# Altium footprint library CAPC1209X035.PcbLib: 3 footprints
Each footprint in its own frame and in the unit in brackets; x right, y up, seen from the top. Pads: shape width x height; smd on the part's side, far side on the other; paste and mask are expansions set on the pad; w line width, h text height; cw(c..) or ccw(c..) is an arc to the next point about the centre after c.
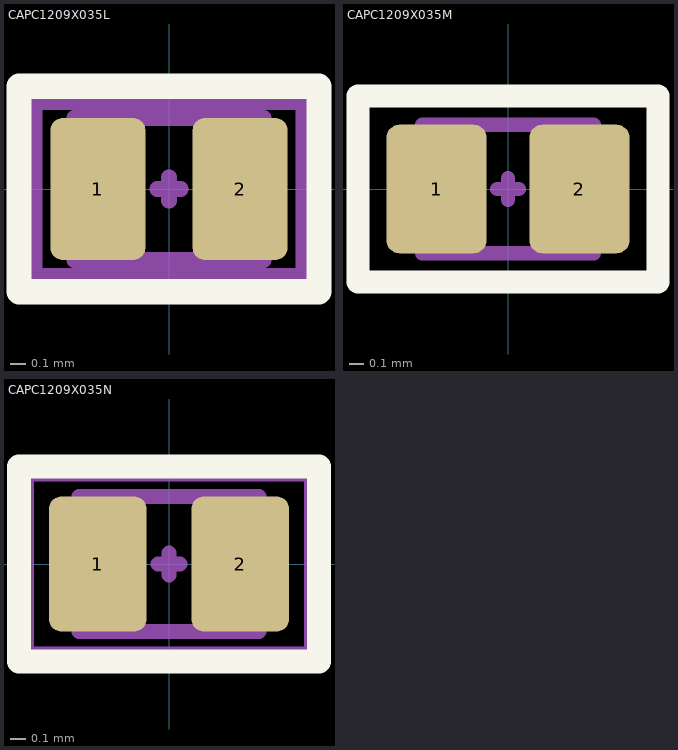
[diagram p0: the footprints below, top view; thin cyan lines are the x and y axes]

## CAPC1209X035L [mm] "Capacitors, Chip, Non-polarized"
height 0.55
pads (2):
  rrect25% 0.6x0.9 smd: 1(-0.45,0) 2(0.45,0)
Top Overlay:
  lines w0.16: -0.95,-0.65 0.95,-0.65 0.95,0.65 -0.95,0.65 -0.95,-0.65
Top Component Center:
  lines w0.1: -0.075,0 0.075,0 ; 0,-0.075 0,0.075
Top Courtyard:
  lines w0.1: -0.85,-0.55 0.85,-0.55 0.85,0.55 -0.85,0.55 -0.85,-0.55
Top Assembly:
  lines w0.1: -0.6,-0.45 0.6,-0.45 0.6,0.45 -0.6,0.45 -0.6,-0.45
  text ".Designator" at 0,0 h1
3D body "CAPC1209X035L.STEP": height 0.35, standoff 0, extent -0.6,-0.45 0.6,0.45

## CAPC1209X035M [mm] "Capacitors, Chip, Non-polarized"
height 0.55
pads (2):
  rrect25% 0.7x0.9 smd: 1(-0.5,0) 2(0.5,0)
Top Overlay:
  lines w0.16: -1.05,-0.65 1.05,-0.65 1.05,0.65 -1.05,0.65 -1.05,-0.65
Top Component Center:
  lines w0.1: -0.075,0 0.075,0 ; 0,-0.075 0,0.075
Top Courtyard:
  lines w0.1: -1.05,-0.65 1.05,-0.65 1.05,0.65 -1.05,0.65 -1.05,-0.65
Top Assembly:
  lines w0.1: -0.6,-0.45 0.6,-0.45 0.6,0.45 -0.6,0.45 -0.6,-0.45
  text ".Designator" at 0,0 h1
3D body "CAPC1209X035M.STEP": height 0.35, standoff 0, extent -0.6,-0.45 0.6,0.45

## CAPC1209X035N [mm] "Capacitors, Chip, Non-polarized"
height 0.55
pads (2):
  rrect25% 0.65x0.9 smd: 1(-0.475,0) 2(0.475,0)
Top Overlay:
  lines w0.16: -1,-0.65 1,-0.65 1,0.65 -1,0.65 -1,-0.65
Top Component Center:
  lines w0.1: -0.075,0 0.075,0 ; 0,-0.075 0,0.075
Top Courtyard:
  lines w0.1: -0.95,-0.6 0.95,-0.6 0.95,0.6 -0.95,0.6 -0.95,-0.6
Top Assembly:
  lines w0.1: -0.6,-0.45 0.6,-0.45 0.6,0.45 -0.6,0.45 -0.6,-0.45
  text ".Designator" at 0,0 h1
3D body "CAPC1209X035N.STEP": height 0.35, standoff 0, extent -0.6,-0.45 0.6,0.45